# Altium footprint library YaoPCB.PCBLIB: 415 footprints (part 24 of 26)
Each footprint in its own frame and in the unit in brackets; x right, y up, seen from the top. Pads: shape width x height; smd on the part's side, far side on the other; paste and mask are expansions set on the pad; w line width, h text height; cw(c..) or ccw(c..) is an arc to the next point about the centre after c.
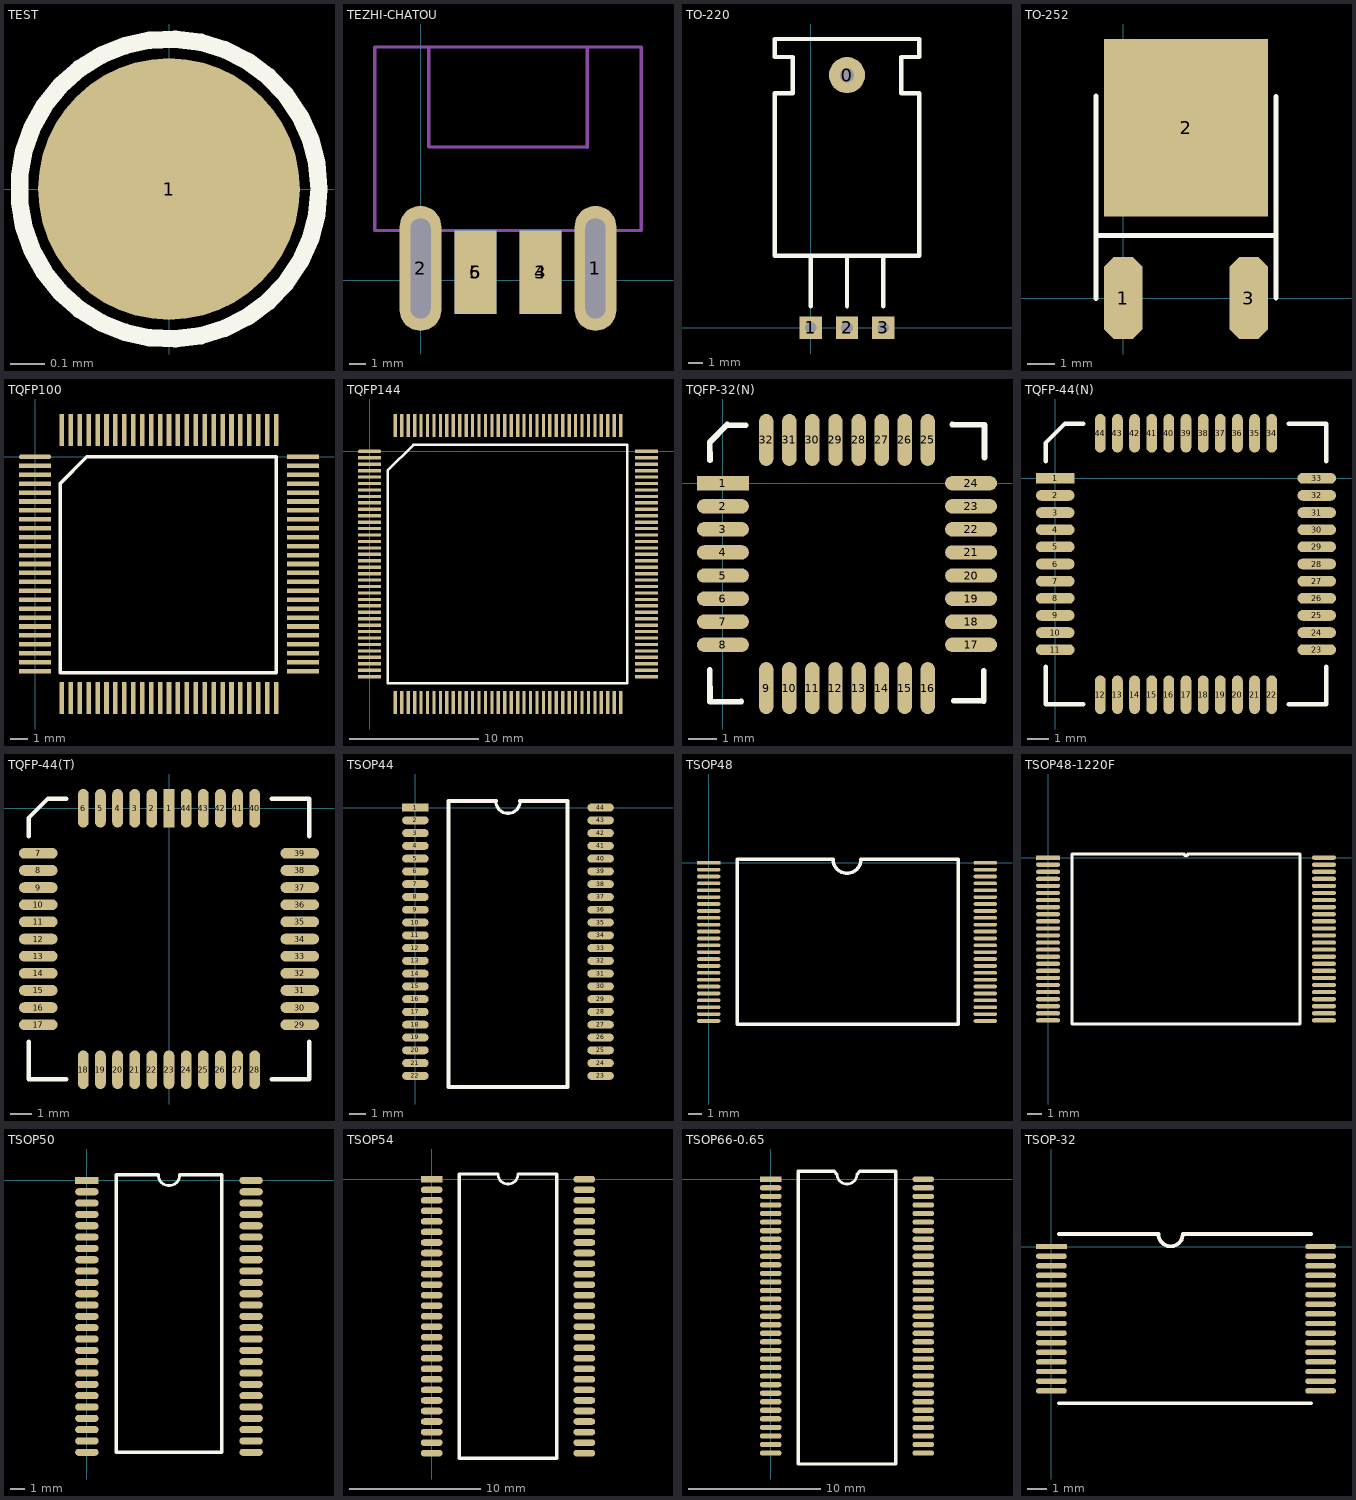
[diagram p23: the footprints below, top view; thin cyan lines are the x and y axes]

## TEST [mil]
pads (1):
  round 30 smd: 1(0,0)
TopOverlay:
  circle w2: c0,0 r17.2

## TEZHI-CHATOU [mm]
pads (6):
  oval 2.5x7.5 hole 1.2 slot 6 at 90 deg: 1(10.5,0.72) 2(0,0.72)
  rect 2.5x5 smd: 3(7.2,0.5) 5(3.3,0.5)
  rect 2.5x5 smd far side: 4(7.2,0.5) 6(3.3,0.5)
Mechanical15:
  lines w0.2: 0.5,14 0.5,8 7,8 10,8 10,14 ; -2.75,3 5.25,3 13.25,3 13.25,14 -2.75,14 -2.75,3

## TO-220 [mil]
pads (4):
  round 100 hole 40: 0(100,700)
  rect 62x62 hole 32: 1(0,0) 2(100,0) 3(200,0)
TopOverlay:
  lines w12: 0,60 0,200 ; 100,60 100,200 ; 200,60 200,200 ; -100,200 -100,650 -50,650 -50,750 -100,750 -100,800 300,800 300,750 250,750 250,650 300,650 300,200 -100,200

## TO-252 [mm]
pads (3):
  oct 1.4x3 smd: 1(0,0) 3(4.6,0)
  rect 6x6.5 smd: 2(2.3,6.25)
TopOverlay:
  lines w0.178: -1,2.3 5.6,2.3 ; 5.6,0 5.6,7.4
  lines w0.2: -1,0 -1,7.4

## TQFP100 [mm]
pads (100):
  oval 1.8x0.254 smd: 1(0,0)
  rect 1.8x0.254 smd: 2(0,-0.5) 3(0,-1) 4(0,-1.5) 5(0,-2) 6(0,-2.5) 7(0,-3) 8(0,-3.5) 9(0,-4) 10(0,-4.5) 11(0,-5) 12(0,-5.5) 13(0,-6) 14(0,-6.5) 15(0,-7) 16(0,-7.5) 17(0,-8) 18(0,-8.5) 19(0,-9) 20(0,-9.5) 21(0,-10) 22(0,-10.5) 23(0,-11) 24(0,-11.5) 25(0,-12) 51(15,-12) 52(15,-11.5) 53(15,-11) 54(15,-10.5) 55(15,-10) 56(15,-9.5) 57(15,-9) 58(15,-8.5) 59(15,-8) 60(15,-7.5) 61(15,-7) 62(15,-6.5) 63(15,-6) 64(15,-5.5) 65(15,-5) 66(15,-4.5) 67(15,-4) 68(15,-3.5) 69(15,-3) 70(15,-2.5) 71(15,-2) 72(15,-1.5) 73(15,-1) 74(15,-0.5) 75(15,0)
  rect 0.254x1.8 smd: 26(1.5,-13.5) 27(2,-13.5) 28(2.5,-13.5) 29(3,-13.5) 30(3.5,-13.5) 31(4,-13.5) 32(4.5,-13.5) 33(5,-13.5) 34(5.5,-13.5) 35(6,-13.5) 36(6.5,-13.5) 37(7,-13.5) 38(7.5,-13.5) 39(8,-13.5) 40(8.5,-13.5) 41(9,-13.5) 42(9.5,-13.5) 43(10,-13.5) 44(10.5,-13.5) 45(11,-13.5) 46(11.5,-13.5) 47(12,-13.5) 48(12.5,-13.5) 49(13,-13.5) 50(13.5,-13.5) 76(13.5,1.5) 77(13,1.5) 78(12.5,1.5) 79(12,1.5) 80(11.5,1.5) 81(11,1.5) 82(10.5,1.5) 83(10,1.5) 84(9.5,1.5) 85(9,1.5) 86(8.5,1.5) 87(8,1.5) 88(7.5,1.5) 89(7,1.5) 90(6.5,1.5) 91(6,1.5) 92(5.5,1.5) 93(5,1.5) 94(4.5,1.5) 95(4,1.5) 96(3.5,1.5) 97(3,1.5) 98(2.5,1.5) 99(2,1.5) 100(1.5,1.5)
TopOverlay:
  lines w0.2: 1.4,-12.1 13.5,-12.1 13.5,0 2.9,0 1.4,-1.5 1.4,-12.1

## TQFP144 [mm]
pads (144):
  oval 1.8x0.254 smd: 1(0,0)
  rect 1.8x0.254 smd: 2(0,-0.5) 3(0,-1) 4(0,-1.5) 5(0,-2) 6(0,-2.5) 7(0,-3) 8(0,-3.5) 9(0,-4) 10(0,-4.5) 11(0,-5) 12(0,-5.5) 13(0,-6) 14(0,-6.5) 15(0,-7) 16(0,-7.5) 17(0,-8) 18(0,-8.5) 19(0,-9) 20(0,-9.5) 21(0,-10) 22(0,-10.5) 23(0,-11) 24(0,-11.5) 25(0,-12) 26(0,-12.5) 27(0,-13) 28(0,-13.5) 29(0,-14) 30(0,-14.5) 31(0,-15) 32(0,-15.5) 33(0,-16) 34(0,-16.5) 35(0,-17) 36(0,-17.5) 73(21.5,-17.5) 74(21.5,-17) 75(21.5,-16.5) 76(21.5,-16) 77(21.5,-15.5) 78(21.5,-15) 79(21.5,-14.5) 80(21.5,-14) 81(21.5,-13.5) 82(21.5,-13) 83(21.5,-12.5) 84(21.5,-12) 85(21.5,-11.5) 86(21.5,-11) 87(21.5,-10.5) 88(21.5,-10) 89(21.5,-9.5) 90(21.5,-9) 91(21.5,-8.5) 92(21.5,-8) 93(21.5,-7.5) 94(21.5,-7) 95(21.5,-6.5) 96(21.5,-6) 97(21.5,-5.5) 98(21.5,-5) 99(21.5,-4.5) 100(21.5,-4) 101(21.5,-3.5) 102(21.5,-3) 103(21.5,-2.5) 104(21.5,-2) 105(21.5,-1.5) 106(21.5,-1) 107(21.5,-0.5) 108(21.5,0)
  rect 0.254x1.8 smd: 37(2,-19.5) 38(2.5,-19.5) 39(3,-19.5) 40(3.5,-19.5) 41(4,-19.5) 42(4.5,-19.5) 43(5,-19.5) 44(5.5,-19.5) 45(6,-19.5) 46(6.5,-19.5) 47(7,-19.5) 48(7.5,-19.5) 49(8,-19.5) 50(8.5,-19.5) 51(9,-19.5) 52(9.5,-19.5) 53(10,-19.5) 54(10.5,-19.5) 55(11,-19.5) 56(11.5,-19.5) 57(12,-19.5) 58(12.5,-19.5) 59(13,-19.5) 60(13.5,-19.5) 61(14,-19.5) 62(14.5,-19.5) 63(15,-19.5) 64(15.5,-19.5) 65(16,-19.5) 66(16.5,-19.5) 67(17,-19.5) 68(17.5,-19.5) 69(18,-19.5) 70(18.5,-19.5) 71(19,-19.5) 72(19.5,-19.5) 109(19.5,2) 110(19,2) 111(18.5,2) 112(18,2) 113(17.5,2) 114(17,2) 115(16.5,2) 116(16,2) 117(15.5,2) 118(15,2) 119(14.5,2) 120(14,2) 121(13.5,2) 122(13,2) 123(12.5,2) 124(12,2) 125(11.5,2) 126(11,2) 127(10.5,2) 128(10,2) 129(9.5,2) 130(9,2) 131(8.5,2) 132(8,2) 133(7.5,2) 134(7,2) 135(6.5,2) 136(6,2) 137(5.5,2) 138(5,2) 139(4.5,2) 140(4,2) 141(3.5,2) 142(3,2) 143(2.5,2) 144(2,2)
TopOverlay:
  lines w0.2: 3.4,0.5 20,0.5 20,-18 1.4,-18 1.4,-1.5 3.404,0.508

## TQFP-32(N) [mm]
pads (32):
  rect 1.8x0.5 smd: 1(0,0)
  oval 1.8x0.5 smd: 2(0,-0.8) 3(0,-1.6) 4(0,-2.4) 5(0,-3.2) 6(0,-4) 7(0,-4.8) 8(0,-5.6) 17(8.6,-5.6) 18(8.6,-4.8) 19(8.6,-4) 20(8.6,-3.2) 21(8.6,-2.4) 22(8.6,-1.6) 23(8.6,-0.8) 24(8.6,0)
  oval 0.5x1.8 smd: 9(1.5,-7.1) 10(2.3,-7.1) 11(3.1,-7.1) 12(3.9,-7.1) 13(4.7,-7.1) 14(5.5,-7.1) 15(6.3,-7.1) 16(7.1,-7.1) 25(7.1,1.5) 26(6.3,1.5) 27(5.5,1.5) 28(4.7,1.5) 29(3.9,1.5) 30(3.1,1.5) 31(2.3,1.5) 32(1.5,1.5)
TopOverlay:
  lines w0.2: -0.457,-6.477 -0.45,-7.578 0.635,-7.569 ; -0.45,0.8 -0.457,1.422 0.152,2.032 ; 0.127,2.007 0.787,2.007 ; 7.95,2.032 9.069,2.017 9.068,0.889 ; 8.001,-7.544 9.043,-7.553 9.042,-6.502

## TQFP-44(N) [mm]
pads (44):
  rect 1.8x0.5 smd: 1(0,0)
  oval 1.8x0.5 smd: 2(0,-0.8) 3(0,-1.6) 4(0,-2.4) 5(0,-3.2) 6(0,-4) 7(0,-4.8) 8(0,-5.6) 9(0,-6.4) 10(0,-7.2) 11(0,-8) 23(12.2,-8) 24(12.2,-7.2) 25(12.2,-6.4) 26(12.2,-5.6) 27(12.2,-4.8) 28(12.2,-4) 29(12.2,-3.2) 30(12.2,-2.4) 31(12.2,-1.6) 32(12.2,-0.8) 33(12.2,0)
  oval 0.5x1.8 smd: 12(2.1,-10.1) 13(2.9,-10.1) 14(3.7,-10.1) 15(4.5,-10.1) 16(5.3,-10.1) 17(6.1,-10.1) 18(6.9,-10.1) 19(7.7,-10.1) 20(8.5,-10.1) 21(9.3,-10.1) 22(10.1,-10.1) 34(10.1,2.1) 35(9.3,2.1) 36(8.5,2.1) 37(7.7,2.1) 38(6.9,2.1) 39(6.1,2.1) 40(5.3,2.1) 41(4.5,2.1) 42(3.7,2.1) 43(2.9,2.1) 44(2.1,2.1)
TopOverlay:
  lines w0.2: -0.45,-8.8 -0.45,-10.55 1.3,-10.55 ; -0.45,0.8 -0.45,1.65 0.45,2.55 1.3,2.55 ; 10.9,-10.55 12.65,-10.55 12.65,-8.8 ; 10.9,2.55 12.65,2.55 12.65,0.8

## TQFP-44(T) [mm]
pads (44):
  rect 0.5x1.8 smd: 1(0,0)
  oval 0.5x1.8 smd: 2(-0.8,0) 3(-1.6,0) 4(-2.4,0) 5(-3.2,0) 6(-4,0) 18(-4,-12.2) 19(-3.2,-12.2) 20(-2.4,-12.2) 21(-1.6,-12.2) 22(-0.8,-12.2) 23(0,-12.2) 24(0.8,-12.2) 25(1.6,-12.2) 26(2.4,-12.2) 27(3.2,-12.2) 28(4,-12.2) 40(4,0) 41(3.2,0) 42(2.4,0) 43(1.6,0) 44(0.8,0)
  oval 1.8x0.5 smd: 7(-6.1,-2.1) 8(-6.1,-2.9) 9(-6.1,-3.7) 10(-6.1,-4.5) 11(-6.1,-5.3) 12(-6.1,-6.1) 13(-6.1,-6.9) 14(-6.1,-7.7) 15(-6.1,-8.5) 16(-6.1,-9.3) 17(-6.1,-10.1) 29(6.1,-10.1) 30(6.1,-9.3) 31(6.1,-8.5) 32(6.1,-7.7) 33(6.1,-6.9) 34(6.1,-6.1) 35(6.1,-5.3) 36(6.1,-4.5) 37(6.1,-3.7) 38(6.1,-2.9) 39(6.1,-2.1)
TopOverlay:
  lines w0.2: -6.55,-10.9 -6.55,-12.65 -4.8,-12.65 ; -6.55,-1.3 -6.55,-0.45 -5.65,0.45 -4.8,0.45 ; 4.8,-12.65 6.55,-12.65 6.55,-10.9 ; 4.8,0.45 6.55,0.45 6.55,-1.3

## TSOP44 [mm]
pads (44):
  rect 1.651x0.5 smd: 1(0,0)
  oval 1.651x0.5 smd: 2(0,-0.8) 3(0,-1.6) 4(0,-2.4) 5(0,-3.2) 6(0,-4) 7(0,-4.8) 8(0,-5.6) 9(0,-6.4) 10(0,-7.2) 11(0,-8) 12(0,-8.8) 13(0,-9.6) 14(0,-10.4) 15(0,-11.2) 16(0,-12) 17(0,-12.8) 18(0,-13.6) 19(0,-14.4) 20(0,-15.2) 21(0,-16) 22(0,-16.8) 23(11.6,-16.8) 24(11.6,-16) 25(11.6,-15.2) 26(11.6,-14.4) 27(11.6,-13.6) 28(11.6,-12.8) 29(11.6,-12) 30(11.6,-11.2) 31(11.6,-10.4) 32(11.6,-9.6) 33(11.6,-8.8) 34(11.6,-8) 35(11.6,-7.2) 36(11.6,-6.4) 37(11.6,-5.6) 38(11.6,-4.8) 39(11.6,-4) 40(11.6,-3.2) 41(11.6,-2.4) 42(11.6,-1.6) 43(11.6,-0.8) 44(11.6,0)
TopOverlay:
  lines w0.203: 5.038,0.4 ccw(c5.8,0.4) 6.562,0.4
  lines w0.254: 5.038,0.4 2.085,0.4 2.085,-17.5 9.515,-17.5 9.515,0.4 6.562,0.4

## TSOP48 [mm]
pads (48):
  rect 1.7x0.269 smd: 1(0,0)
  oval 1.7x0.269 smd: 2(0,-0.5) 3(0,-1) 4(0,-1.5) 5(0,-2) 6(0,-2.5) 7(0,-3) 8(0,-3.5) 9(0,-4) 10(0,-4.5) 11(0,-5) 12(0,-5.5) 13(0,-6) 14(0,-6.5) 15(0,-7) 16(0,-7.5) 17(0,-8) 18(0,-8.5) 19(0,-9) 20(0,-9.5) 21(0,-10) 22(0,-10.5) 23(0,-11) 24(0,-11.5) 25(20.1,-11.5) 26(20.1,-11) 27(20.1,-10.5) 28(20.1,-10) 29(20.1,-9.5) 30(20.1,-9) 31(20.1,-8.5) 32(20.1,-8) 33(20.1,-7.5) 34(20.1,-7) 35(20.1,-6.5) 36(20.1,-6) 37(20.1,-5.5) 38(20.1,-5) 39(20.1,-4.5) 40(20.1,-4) 41(20.1,-3.5) 42(20.1,-3) 43(20.1,-2.5) 44(20.1,-2) 45(20.1,-1.5) 46(20.1,-1) 47(20.1,-0.5) 48(20.1,0)
TopOverlay:
  lines w0.254: 2.085,-11.75 2.085,0.25 9.034,0.25 ccw(c10.05,0.25) 11.066,0.25 18.142,0.25 18.142,-11.75 2.085,-11.75

## TSOP48-1220F [mm]
pads (48):
  rect 1.7x0.3 smd: 1(0,0)
  oval 1.7x0.3 smd: 2(0,-0.5) 3(0,-1) 4(0,-1.5) 5(0,-2) 6(0,-2.5) 7(0,-3) 8(0,-3.5) 9(0,-4) 10(0,-4.5) 11(0,-5) 12(0,-5.5) 13(0,-6) 14(0,-6.5) 15(0,-7) 16(0,-7.5) 17(0,-8) 18(0,-8.5) 19(0,-9) 20(0,-9.5) 21(0,-10) 22(0,-10.5) 23(0,-11) 24(0,-11.5) 25(19.5,-11.5) 26(19.5,-11) 27(19.5,-10.5) 28(19.5,-10) 29(19.5,-9.5) 30(19.5,-9) 31(19.5,-8.5) 32(19.5,-8) 33(19.5,-7.5) 34(19.5,-7) 35(19.5,-6.5) 36(19.5,-6) 37(19.5,-5.5) 38(19.5,-5) 39(19.5,-4.5) 40(19.5,-4) 41(19.5,-3.5) 42(19.5,-3) 43(19.5,-2.5) 44(19.5,-2) 45(19.5,-1.5) 46(19.5,-1) 47(19.5,-0.5) 48(19.5,0)
TopOverlay:
  lines w0.2: 1.685,-11.75 1.685,0.25 9.625,0.25 ccw(c9.75,0.25) 9.875,0.25 17.815,0.25 17.815,-11.75 1.685,-11.75

## TSOP50 [mm]
pads (50):
  rect 1.651x0.5 smd: 1(0,0)
  oval 1.651x0.5 smd: 2(0,-0.8) 3(0,-1.6) 4(0,-2.4) 5(0,-3.2) 6(0,-4) 7(0,-4.8) 8(0,-5.6) 9(0,-6.4) 10(0,-7.2) 11(0,-8) 12(0,-8.8) 13(0,-9.6) 14(0,-10.4) 15(0,-11.2) 16(0,-12) 17(0,-12.8) 18(0,-13.6) 19(0,-14.4) 20(0,-15.2) 21(0,-16) 22(0,-16.8) 23(0,-17.6) 24(0,-18.4) 25(0,-19.2) 26(11.6,-19.2) 27(11.6,-18.4) 28(11.6,-17.6) 29(11.6,-16.8) 30(11.6,-16) 31(11.6,-15.2) 32(11.6,-14.4) 33(11.6,-13.6) 34(11.6,-12.8) 35(11.6,-12) 36(11.6,-11.2) 37(11.6,-10.4) 38(11.6,-9.6) 39(11.6,-8.8) 40(11.6,-8) 41(11.6,-7.2) 42(11.6,-6.4) 43(11.6,-5.6) 44(11.6,-4.8) 45(11.6,-4) 46(11.6,-3.2) 47(11.6,-2.4) 48(11.6,-1.6) 49(11.6,-0.8) 50(11.6,0)
TopOverlay:
  lines w0.203: 5.038,0.4 ccw(c5.8,0.4) 6.562,0.4
  lines w0.254: 5.038,0.4 2.085,0.4 2.085,-19.2 9.515,-19.2 9.515,0.4 6.562,0.4

## TSOP54 [mm]
pads (54):
  rect 1.651x0.5 smd: 1(0,0)
  oval 1.651x0.5 smd: 2(0,-0.8) 3(0,-1.6) 4(0,-2.4) 5(0,-3.2) 6(0,-4) 7(0,-4.8) 8(0,-5.6) 9(0,-6.4) 10(0,-7.2) 11(0,-8) 12(0,-8.8) 13(0,-9.6) 14(0,-10.4) 15(0,-11.2) 16(0,-12) 17(0,-12.8) 18(0,-13.6) 19(0,-14.4) 20(0,-15.2) 21(0,-16) 22(0,-16.8) 23(0,-17.6) 24(0,-18.4) 25(0,-19.2) 26(0,-20) 27(0,-20.8) 28(11.6,-20.8) 29(11.6,-20) 30(11.6,-19.2) 31(11.6,-18.4) 32(11.6,-17.6) 33(11.6,-16.8) 34(11.6,-16) 35(11.6,-15.2) 36(11.6,-14.4) 37(11.6,-13.6) 38(11.6,-12.8) 39(11.6,-12) 40(11.6,-11.2) 41(11.6,-10.4) 42(11.6,-9.6) 43(11.6,-8.8) 44(11.6,-8) 45(11.6,-7.2) 46(11.6,-6.4) 47(11.6,-5.6) 48(11.6,-4.8) 49(11.6,-4) 50(11.6,-3.2) 51(11.6,-2.4) 52(11.6,-1.6) 53(11.6,-0.8) 54(11.6,0)
TopOverlay:
  lines w0.203: 5.038,0.4 ccw(c5.8,0.4) 6.562,0.4
  lines w0.254: 5.038,0.4 2.085,0.4 2.085,-21.2 9.515,-21.2 9.515,0.4 6.562,0.4

## TSOP66-0.65 [mm]
pads (66):
  rect 1.651x0.4 smd: 1(0,0)
  oval 1.651x0.4 smd: 2(0,-0.65) 3(0,-1.3) 4(0,-1.95) 5(0,-2.6) 6(0,-3.25) 7(0,-3.9) 8(0,-4.55) 9(0,-5.2) 10(0,-5.85) 11(0,-6.5) 12(0,-7.15) 13(0,-7.8) 14(0,-8.45) 15(0,-9.1) 16(0,-9.75) 17(0,-10.4) 18(0,-11.05) 19(0,-11.7) 20(0,-12.35) 21(0,-13) 22(0,-13.65) 23(0,-14.3) 24(0,-14.95) 25(0,-15.6) 26(0,-16.25) 27(0,-16.9) 28(0,-17.55) 29(0,-18.2) 30(0,-18.85) 31(0,-19.5) 32(0,-20.15) 33(0,-20.8) 34(11.6,-20.8) 35(11.6,-20.15) 36(11.6,-19.5) 37(11.6,-18.85) 38(11.6,-18.2) 39(11.6,-17.55) 40(11.6,-16.9) 41(11.6,-16.25) 42(11.6,-15.6) 43(11.6,-14.95) 44(11.6,-14.3) 45(11.6,-13.65) 46(11.6,-13) 47(11.6,-12.35) 48(11.6,-11.7) 49(11.6,-11.05) 50(11.6,-10.4) 51(11.6,-9.75) 52(11.6,-9.1) 53(11.6,-8.45) 54(11.6,-7.8) 55(11.6,-7.15) 56(11.6,-6.5) 57(11.6,-5.85) 58(11.6,-5.2) 59(11.6,-4.55) 60(11.6,-3.9) 61(11.6,-3.25) 62(11.6,-2.6) 63(11.6,-1.95) 64(11.6,-1.3) 65(11.6,-0.65) 66(11.6,0)
TopOverlay:
  lines w0.203: 5.038,0.4 ccw(c5.8,0.4) 6.562,0.4
  lines w0.254: 5.038,0.4 4.838,0.6 2.085,0.6 2.085,-21.63 9.515,-21.63 9.515,0.6 6.762,0.6 6.562,0.4

## TSOP-32 [mm]
pads (32):
  rect 1.6x0.28 smd: 1(0,0)
  oval 1.6x0.28 smd: 2(0,-0.5) 3(0,-1) 4(0,-1.5) 5(0,-2) 6(0,-2.5) 7(0,-3) 8(0,-3.5) 9(0,-4) 10(0,-4.5) 11(0,-5) 12(0,-5.5) 13(0,-6) 14(0,-6.5) 15(0,-7) 16(0,-7.5) 17(14,-7.5) 18(14,-7) 19(14,-6.5) 20(14,-6) 21(14,-5.5) 22(14,-5) 23(14,-4.5) 24(14,-4) 25(14,-3.5) 26(14,-3) 27(14,-2.5) 28(14,-2) 29(14,-1.5) 30(14,-1) 31(14,-0.5) 32(14,0)
TopOverlay:
  lines w0.2: 0.4,-8.15 13.5,-8.15 ; 0.4,0.65 5.565,0.65 ccw(c6.2,0.65) 6.835,0.65 13.5,0.65